# EAGLE library part I__STM32F103XF/G (library +Praktikanten)
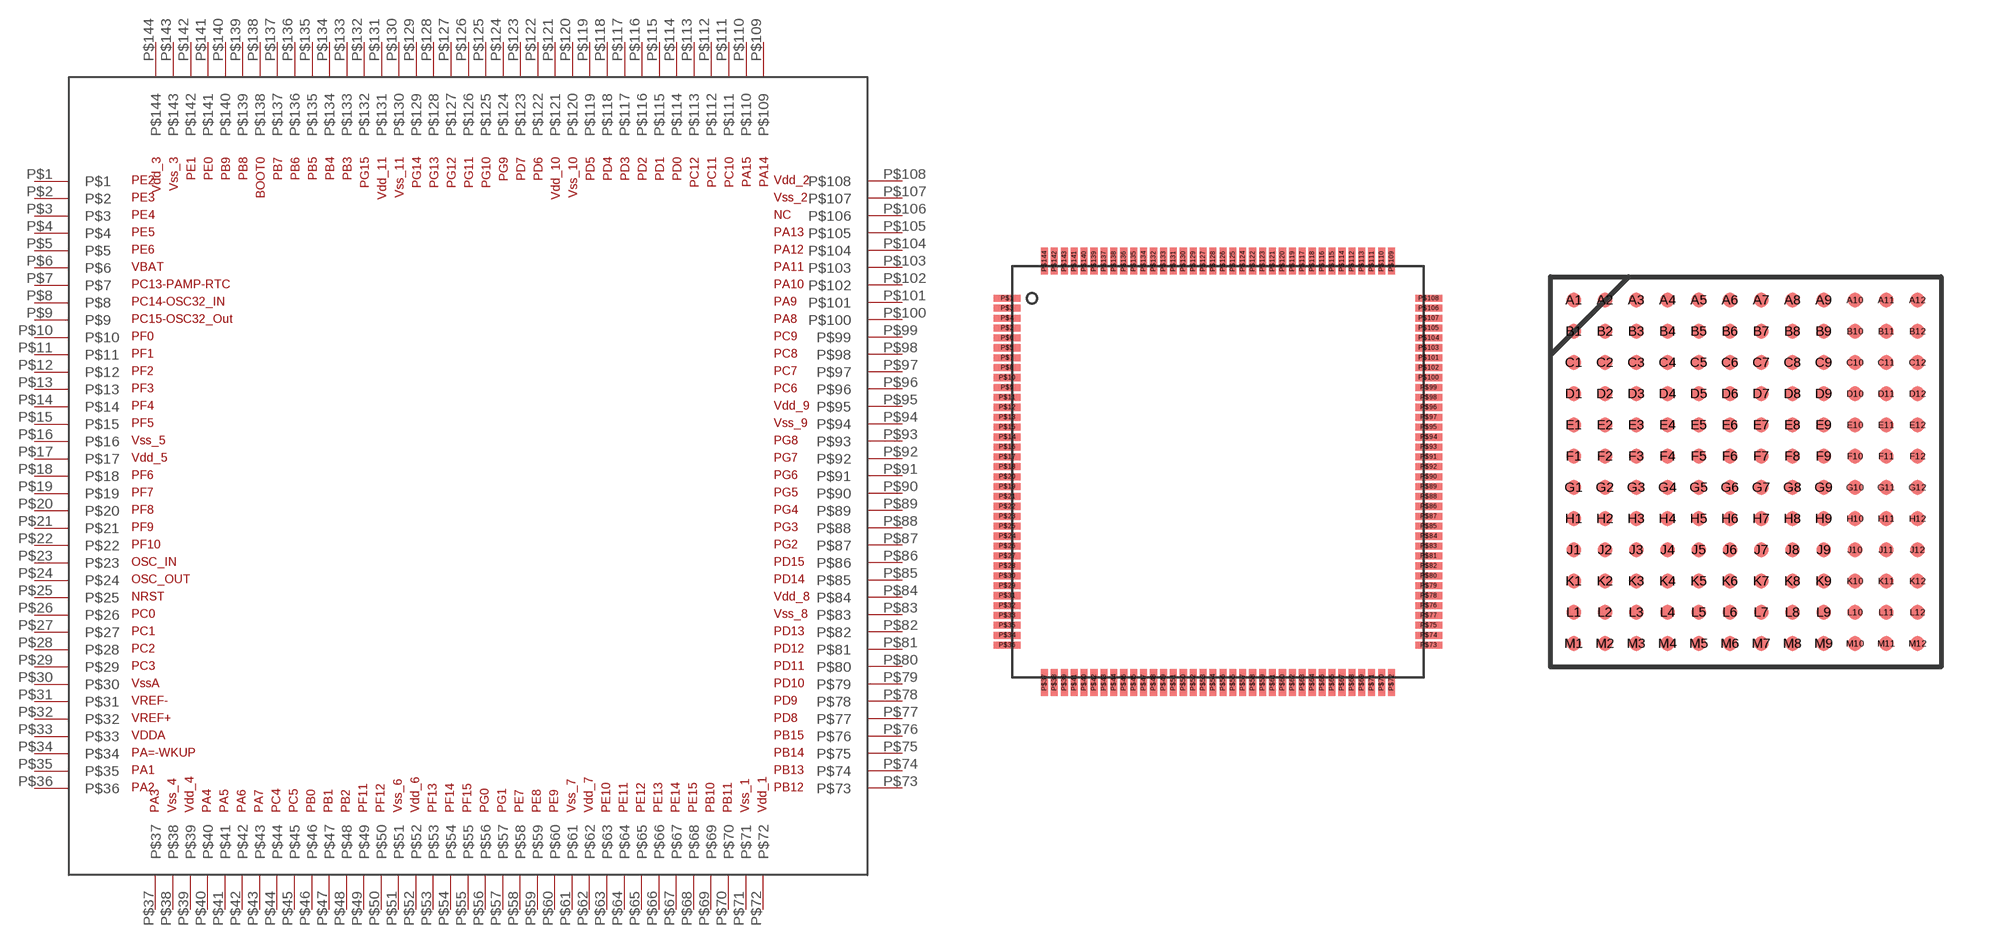
[diagram p10: symbol with the pads of STM32F103; footprints STM32F103, LFBGA144]

Designator prefix I

## I__STM32F103XF/G'LQFP144'  [STM32F103]
P$1  P$1
P$2  P$2
P$3  P$3
P$4  P$4
P$5  P$5
P$6  P$6
P$7  P$7
P$8  P$8
P$9  P$9
P$10  P$10
P$11  P$11
P$12  P$12
P$13  P$13
P$14  P$14
P$15  P$15
P$16  P$16
P$17  P$17
P$18  P$18
P$19  P$19
P$20  P$20
P$21  P$21
P$22  P$22
P$23  P$23
P$24  P$24
P$25  P$25
P$26  P$26
P$27  P$27
P$28  P$28
P$29  P$29
P$30  P$30
P$31  P$31
P$32  P$32
P$33  P$33
P$34  P$34
P$35  P$35
P$36  P$36
P$37  P$37
P$38  P$38
P$39  P$39
P$40  P$40
P$41  P$41
P$42  P$42
P$43  P$43
P$44  P$44
P$45  P$45
P$46  P$46
P$47  P$47
P$48  P$48
P$49  P$49
P$50  P$50
P$51  P$51
P$52  P$52
P$53  P$53
P$54  P$54
P$55  P$55
P$56  P$56
P$57  P$57
P$58  P$58
P$59  P$59
P$60  P$60
P$61  P$61
P$62  P$62
P$63  P$63
P$64  P$64
P$65  P$65
P$66  P$66
P$67  P$67
P$68  P$68
P$69  P$69
P$70  P$70
P$71  P$71
P$72  P$72
P$73  P$73
P$74  P$74
P$75  P$75
P$76  P$76
P$77  P$77
P$78  P$78
P$79  P$79
P$80  P$80
P$81  P$81
P$82  P$82
P$83  P$83
P$84  P$84
P$85  P$85
P$86  P$86
P$87  P$87
P$88  P$88
P$89  P$89
P$90  P$90
P$91  P$91
P$92  P$92
P$93  P$93
P$94  P$94
P$95  P$95
P$96  P$96
P$97  P$97
P$98  P$98
P$99  P$99
P$100  P$100
P$101  P$101
P$102  P$102
P$103  P$103
P$104  P$104
P$105  P$105
P$106  P$106
P$107  P$107
P$108  P$108
P$109  P$109
P$110  P$110
P$111  P$111
P$112  P$112
P$113  P$113
P$114  P$114
P$115  P$115
P$116  P$116
P$117  P$117
P$118  P$118
P$119  P$119
P$120  P$120
P$121  P$121
P$122  P$122
P$123  P$123
P$124  P$124
P$125  P$125
P$126  P$126
P$127  P$127
P$128  P$128
P$129  P$129
P$130  P$130
P$131  P$131
P$132  P$132
P$133  P$133
P$134  P$134
P$135  P$135
P$136  P$136
P$137  P$137
P$138  P$138
P$139  P$139
P$140  P$140
P$141  P$141
P$142  P$142
P$143  P$143
P$144  P$144

## I__STM32F103XF/G'LFBGA144'  [LFBGA144]
A1  P$7
A2  P$2
A3  P$1
A4  P$142
A5  P$141
A6  P$134
A7  P$133
A8  P$122
A9  P$123
A10  P$110
A11  P$109
A12  P$105
B1  P$8
B2  P$3
B3  P$4
B4  P$5
B5  P$140
B6  P$135
B7  P$132
B8  P$127
B9  P$119
B10  P$112
B11  P$111
B12  P$104
C1  P$9
C2  P$6
C3  P$10
C4  P$11
C5  P$139
C6  P$136
C7  P$129
C8  P$126
C9  P$118
C10  P$113
C11  P$106
C12  P$103
D1  P$23
D2  P$16
D3  P$17
D4  P$12
D5  P$138
D6  P$137
D7  P$128
D8  P$125
D9  P$117
D10  P$115
D11  P$102
D12  P$101
E1  P$24
E2  P$13
E3  P$14
E4  P$15
E5  P$143
E6  P$130
E7  P$120
E8  P$124
E9  P$116
E10  P$114
E11  P$99
E12  P$100
F1  P$25
F2  P$19
F3  P$18
F4  P$39
F5  P$144
F6  P$131
F7  P$121
F8  P$84
F9  P$108
F10  P$95
F11  P$98
F12  P$97
G1  P$22
G2  P$21
G3  P$20
G4  P$38
G5  P$52
G6  P$62
G7  P$72
G8  P$83
G9  P$107
G10  P$94
G11  P$93
G12  P$96
H1  P$26
H2  P$27
H3  P$28
H4  P$29
H5  P$51
H6  P$61
H7  P$71
H8  P$64
H9  P$80
H10  P$92
H11  P$91
H12  P$90
J1  P$30
J2  P$34
J3  P$40
J4  P$44
J5  P$48
J6  P$57
J7  P$63
J8  P$65
J9  P$79
J10  P$89
J11  P$88
J12  P$87
K1  P$31
K2  P$35
K3  P$41
K4  P$45
K5  P$53
K6  P$56
K7  P$60
K8  P$66
K9  P$78
K10  P$82
K11  P$85
K12  P$86
L1  P$32
L2  P$36
L3  P$42
L4  P$46
L5  P$50
L6  P$55
L7  P$59
L8  P$67
L9  P$77
L10  P$81
L11  P$75
L12  P$76
M1  P$33
M2  P$37
M3  P$43
M4  P$47
M5  P$49
M6  P$54
M7  P$58
M8  P$68
M9  P$69
M10  P$70
M11  P$73
M12  P$74

## Footprint STM32F103 (pad centres in mm)
smd 1.35 x 0.35: P$1 -10.75,8.25; P$2 -10.75,6.75; P$3 -10.75,7.75; P$4 -10.75,7.25; P$5 -10.75,5.75; P$6 -10.75,6.25; P$7 -10.75,5.25; P$8 -10.75,4.75; P$9 -10.75,3.75; P$10 -10.75,4.25; P$11 -10.75,3.25; P$12 -10.75,2.75; P$13 -10.75,2.25; P$14 -10.75,1.25; P$15 -10.75,1.75; P$16 -10.75,0.75; P$17 -10.75,0.25; P$18 -10.75,-0.25; P$19 -10.75,-1.25; P$20 -10.75,-0.75; P$21 -10.75,-1.75; P$22 -10.75,-2.25; P$23 -10.75,-2.75; P$24 -10.75,-3.75; P$25 -10.75,-3.25; P$26 -10.75,-4.25; P$27 -10.75,-4.75; P$28 -10.75,-5.25; P$29 -10.75,-6.25; P$30 -10.75,-5.75; P$31 -10.75,-6.75; P$32 -10.75,-7.25; P$33 -10.75,-7.75; P$34 -10.75,-8.75; P$35 -10.75,-8.25; P$36 -10.75,-9.25; P$73 10.5,-9.25; P$74 10.5,-8.75; P$75 10.5,-8.25; P$76 10.5,-7.25; P$77 10.5,-7.75; P$78 10.5,-6.75; P$79 10.5,-6.25; P$80 10.5,-5.75; P$81 10.5,-4.75; P$82 10.5,-5.25; P$83 10.5,-4.25; P$84 10.5,-3.75; P$85 10.5,-3.25; P$86 10.5,-2.25; P$87 10.5,-2.75; P$88 10.5,-1.75; P$89 10.5,-1.25; P$90 10.5,-0.75; P$91 10.5,0.25; P$92 10.5,-0.25; P$93 10.5,0.75; P$94 10.5,1.25; P$95 10.5,1.75; P$96 10.5,2.75; P$97 10.5,2.25; P$98 10.5,3.25; P$99 10.5,3.75; P$100 10.5,4.25; P$101 10.5,5.25; P$102 10.5,4.75; P$103 10.5,5.75; P$104 10.5,6.25; P$105 10.5,6.75; P$106 10.5,7.75; P$107 10.5,7.25; P$108 10.5,8.25
smd 0.35 x 1.35: P$37 -8.875,-11.125; P$38 -8.375,-11.125; P$39 -7.875,-11.125; P$40 -6.875,-11.125; P$41 -7.375,-11.125; P$42 -6.375,-11.125; P$43 -5.875,-11.125; P$44 -5.375,-11.125; P$45 -4.375,-11.125; P$46 -4.875,-11.125; P$47 -3.875,-11.125; P$48 -3.375,-11.125; P$49 -2.875,-11.125; P$50 -1.875,-11.125; P$51 -2.375,-11.125; P$52 -1.375,-11.125; P$53 -0.875,-11.125; P$54 -0.375,-11.125; P$55 0.625,-11.125; P$56 0.125,-11.125; P$57 1.125,-11.125; P$58 1.625,-11.125; P$59 2.125,-11.125; P$60 3.125,-11.125; P$61 2.625,-11.125; P$62 3.625,-11.125; P$63 4.125,-11.125; P$64 4.625,-11.125; P$65 5.625,-11.125; P$66 5.125,-11.125; P$67 6.125,-11.125; P$68 6.625,-11.125; P$69 7.125,-11.125; P$70 8.125,-11.125; P$71 7.625,-11.125; P$72 8.625,-11.125; P$109 8.625,10.125; P$110 8.125,10.125; P$111 7.625,10.125; P$112 6.625,10.125; P$113 7.125,10.125; P$114 6.125,10.125; P$115 5.625,10.125; P$116 5.125,10.125; P$117 4.125,10.125; P$118 4.625,10.125; P$119 3.625,10.125; P$120 3.125,10.125; P$121 2.625,10.125; P$122 1.625,10.125; P$123 2.125,10.125; P$124 1.125,10.125; P$125 0.625,10.125; P$126 0.125,10.125; P$127 -0.875,10.125; P$128 -0.375,10.125; P$129 -1.375,10.125; P$130 -1.875,10.125; P$131 -2.375,10.125; P$132 -3.375,10.125; P$133 -2.875,10.125; P$134 -3.875,10.125; P$135 -4.375,10.125; P$136 -4.875,10.125; P$137 -5.875,10.125; P$138 -5.375,10.125; P$139 -6.375,10.125; P$140 -6.875,10.125; P$141 -7.375,10.125; P$142 -8.375,10.125; P$143 -7.875,10.125; P$144 -8.875,10.125

## Footprint LFBGA144 (pad centres in mm)
smd 0.37 x 0.37: A1 0,0; A2 0.8,0; A3 1.6,0; A4 2.4,0; A5 3.2,0; A6 4,0; A7 4.8,0; A8 5.6,0; A9 6.4,0; A10 7.2,0; A11 8,0; A12 8.8,0; B1 0,-0.8; B2 0.8,-0.8; B3 1.6,-0.8; B4 2.4,-0.8; B5 3.2,-0.8; B6 4,-0.8; B7 4.8,-0.8; B8 5.6,-0.8; B9 6.4,-0.8; B10 7.2,-0.8; B11 8,-0.8; B12 8.8,-0.8; C1 0,-1.6; C2 0.8,-1.6; C3 1.6,-1.6; C4 2.4,-1.6; C5 3.2,-1.6; C6 4,-1.6; C7 4.8,-1.6; C8 5.6,-1.6; C9 6.4,-1.6; C10 7.2,-1.6; C11 8,-1.6; C12 8.8,-1.6; D1 0,-2.4; D2 0.8,-2.4; D3 1.6,-2.4; D4 2.4,-2.4; D5 3.2,-2.4; D6 4,-2.4; D7 4.8,-2.4; D8 5.6,-2.4; D9 6.4,-2.4; D10 7.2,-2.4; D11 8,-2.4; D12 8.8,-2.4; E1 0,-3.2; E2 0.8,-3.2; E3 1.6,-3.2; E4 2.4,-3.2; E5 3.2,-3.2; E6 4,-3.2; E7 4.8,-3.2; E8 5.6,-3.2; E9 6.4,-3.2; E10 7.2,-3.2; E11 8,-3.2; E12 8.8,-3.2; F1 0,-4; F2 0.8,-4; F3 1.6,-4; F4 2.4,-4; F5 3.2,-4; F6 4,-4; F7 4.8,-4; F8 5.6,-4; F9 6.4,-4; F10 7.2,-4; F11 8,-4; F12 8.8,-4; G1 0,-4.8; G2 0.8,-4.8; G3 1.6,-4.8; G4 2.4,-4.8; G5 3.2,-4.8; G6 4,-4.8; G7 4.8,-4.8; G8 5.6,-4.8; G9 6.4,-4.8; G10 7.2,-4.8; G11 8,-4.8; G12 8.8,-4.8; H1 0,-5.6; H2 0.8,-5.6; H3 1.6,-5.6; H4 2.4,-5.6; H5 3.2,-5.6; H6 4,-5.6; H7 4.8,-5.6; H8 5.6,-5.6; H9 6.4,-5.6; H10 7.2,-5.6; H11 8,-5.6; H12 8.8,-5.6; J1 0,-6.4; J2 0.8,-6.4; J3 1.6,-6.4; J4 2.4,-6.4; J5 3.2,-6.4; J6 4,-6.4; J7 4.8,-6.4; J8 5.6,-6.4; J9 6.4,-6.4; J10 7.2,-6.4; J11 8,-6.4; J12 8.8,-6.4; K1 0,-7.2; K2 0.8,-7.2; K3 1.6,-7.2; K4 2.4,-7.2; K5 3.2,-7.2; K6 4,-7.2; K7 4.8,-7.2; K8 5.6,-7.2; K9 6.4,-7.2; K10 7.2,-7.2; K11 8,-7.2; K12 8.8,-7.2; L1 0,-8; L2 0.8,-8; L3 1.6,-8; L4 2.4,-8; L5 3.2,-8; L6 4,-8; L7 4.8,-8; L8 5.6,-8; L9 6.4,-8; L10 7.2,-8; L11 8,-8; L12 8.8,-8; M1 0,-8.8; M2 0.8,-8.8; M3 1.6,-8.8; M4 2.4,-8.8; M5 3.2,-8.8; M6 4,-8.8; M7 4.8,-8.8; M8 5.6,-8.8; M9 6.4,-8.8; M10 7.2,-8.8; M11 8,-8.8; M12 8.8,-8.8